# Altium schematic symbol library SOLDER_PAD.Schlib: 1 symbol
Pins are listed as number, name and electrical type; pins without a type are passive.

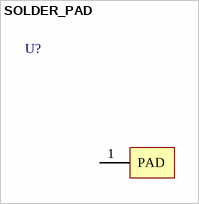
[diagram p0: symbol SOLDER_PAD]

## SOLDER_PAD
designator U?
pins: 1 PAD (power)